# EAGLE library part RTL8723BS_MODUL_RTL8723BS (library Blueberry Pi)
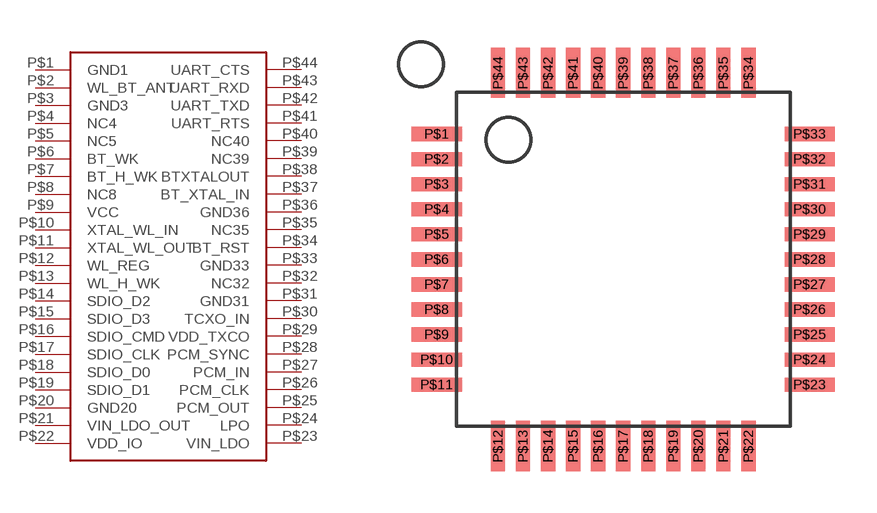
[diagram p6: symbol with the pads of RTL8723BS_MODUL_LGA; footprint RTL8723BS_MODUL_LGA]

Designator prefix -

## RTL8723BS_MODUL_RTL8723BS  [RTL8723BS_MODUL_LGA]
P$1  GND1
P$2  WL_BT_ANT
P$3  GND3
P$4  NC4
P$5  NC5
P$6  BT_WK
P$7  BT_H_WK
P$8  NC8
P$9  VCC
P$10  XTAL_WL_IN
P$11  XTAL_WL_OUT
P$12  WL_REG
P$13  WL_H_WK
P$14  SDIO_D2
P$15  SDIO_D3
P$16  SDIO_CMD
P$17  SDIO_CLK
P$18  SDIO_D0
P$19  SDIO_D1
P$20  GND20
P$21  VIN_LDO_OUT
P$22  VDD_IO
P$23  VIN_LDO
P$24  LPO
P$25  PCM_OUT
P$26  PCM_CLK
P$27  PCM_IN
P$28  PCM_SYNC
P$29  VDD_TXCO
P$30  TCXO_IN
P$31  GND31
P$32  NC32
P$33  GND33
P$34  BT_RST
P$35  NC35
P$36  GND36
P$37  BT_XTAL_IN
P$38  BTXTALOUT
P$39  NC39
P$40  NC40
P$41  UART_RTS
P$42  UART_TXD
P$43  UART_RXD
P$44  UART_CTS

## Footprint RTL8723BS_MODUL_LGA (pad centres in mm)
smd 1.8 x 0.51: P$1 -0.7,10.5; P$2 -0.7,9.6; P$3 -0.7,8.7; P$4 -0.7,7.8; P$5 -0.7,6.9; P$6 -0.7,6; P$7 -0.7,5.1; P$8 -0.7,4.2; P$9 -0.7,3.3; P$10 -0.7,2.4; P$11 -0.7,1.5; P$23 12.7,1.5; P$24 12.7,2.4; P$25 12.7,3.3; P$26 12.7,4.2; P$27 12.7,5.1; P$28 12.7,6; P$29 12.7,6.9; P$30 12.7,7.8; P$31 12.7,8.7; P$32 12.7,9.6; P$33 12.7,10.5
smd 0.51 x 1.8: P$12 1.5,-0.7; P$13 2.4,-0.7; P$14 3.3,-0.7; P$15 4.2,-0.7; P$16 5.1,-0.7; P$17 6,-0.7; P$18 6.9,-0.7; P$19 7.8,-0.7; P$20 8.7,-0.7; P$21 9.6,-0.7; P$22 10.5,-0.7; P$34 10.5,12.7; P$35 9.6,12.7; P$36 8.7,12.7; P$37 7.8,12.7; P$38 6.9,12.7; P$39 6,12.7; P$40 5.1,12.7; P$41 4.2,12.7; P$42 3.3,12.7; P$43 2.4,12.7; P$44 1.5,12.7